# Altium schematic symbol library WSLP25127L500FEA.SchLib: 1 symbol
Pins are listed as number, name and electrical type; pins without a type are passive.

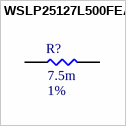
[diagram p0: symbol WSLP25127L500FEA]

## WSLP25127L500FEA
designator R?  Resistance: 7.5m  Tolerance: 1%  (hidden comment: WSLP25127L500FEA)
RES 0.0075 OHM 1% 3W 2512; MFR: Vishay Dale; PN: WSLP25127L500FEA; Footprint: RES2512; Package: 2512; ComponentLink1Description: Datasheet; ComponentLink1URL: https://www.vishay.com/docs/30122/wslp.pdf; Power Rating: 3W; Supplier 1: Digi-Key; Supplier Part Number 1: 541-10155-1-ND
footprint RES_2512
pins: 1, 2